# EAGLE library part HIROSE_DF40_70PIN (library GG_hirose70)
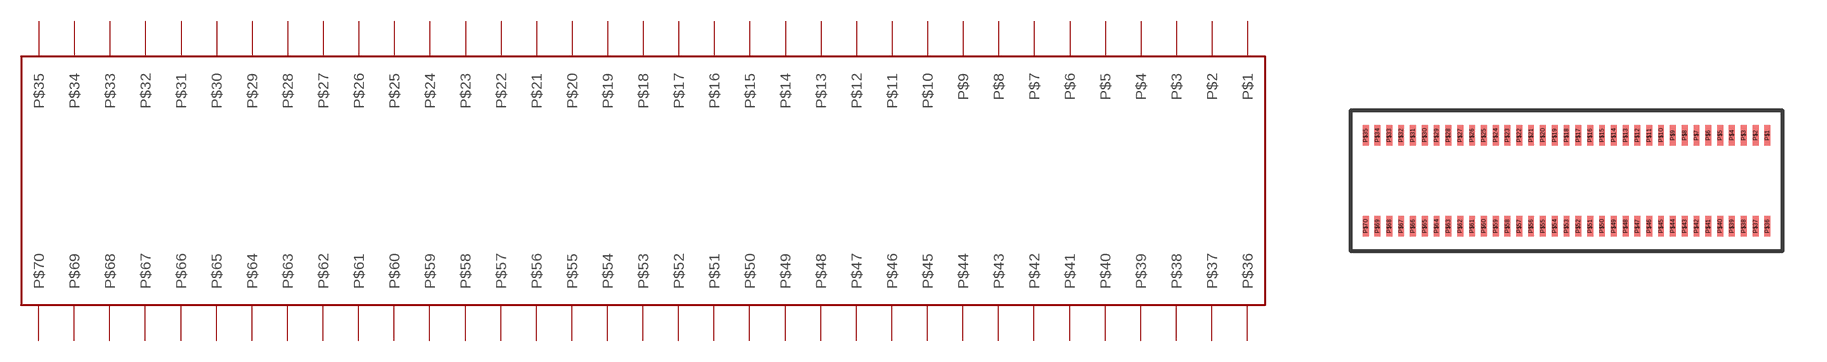
[diagram p0: symbol with the pads of HIROSE_DF40C-70DS; footprint HIROSE_DF40C-70DS]

Designator prefix -

## HIROSE_DF40_70PIN  [HIROSE_DF40C-70DS]
P$1  P$1
P$2  P$2
P$3  P$3
P$4  P$4
P$5  P$5
P$6  P$6
P$7  P$7
P$8  P$8
P$9  P$9
P$10  P$10
P$11  P$11
P$12  P$12
P$13  P$13
P$14  P$14
P$15  P$15
P$16  P$16
P$17  P$17
P$18  P$18
P$19  P$19
P$20  P$20
P$21  P$21
P$22  P$22
P$23  P$23
P$24  P$24
P$25  P$25
P$26  P$26
P$27  P$27
P$28  P$28
P$29  P$29
P$30  P$30
P$31  P$31
P$32  P$32
P$33  P$33
P$34  P$34
P$35  P$35
P$36  P$36
P$37  P$37
P$38  P$38
P$39  P$39
P$40  P$40
P$41  P$41
P$42  P$42
P$43  P$43
P$44  P$44
P$45  P$45
P$46  P$46
P$47  P$47
P$48  P$48
P$49  P$49
P$50  P$50
P$51  P$51
P$52  P$52
P$53  P$53
P$54  P$54
P$55  P$55
P$56  P$56
P$57  P$57
P$58  P$58
P$59  P$59
P$60  P$60
P$61  P$61
P$62  P$62
P$63  P$63
P$64  P$64
P$65  P$65
P$66  P$66
P$67  P$67
P$68  P$68
P$69  P$69
P$70  P$70

## Footprint HIROSE_DF40C-70DS (pad centres in mm)
Hirose pads for DF40 package
smd 0.2 x 0.7: P$1 0,0; P$2 -0.4,0; P$3 -0.8,0; P$4 -1.2,0; P$5 -1.6,0; P$6 -2,0; P$7 -2.4,0; P$8 -2.8,0; P$9 -3.2,0; P$10 -3.6,0; P$11 -4,0; P$12 -4.4,0; P$13 -4.8,0; P$14 -5.2,0; P$15 -5.6,0; P$16 -6,0; P$17 -6.4,0; P$18 -6.8,0; P$19 -7.2,0; P$20 -7.6,0; P$21 -8,0; P$22 -8.4,0; P$23 -8.8,0; P$24 -9.2,0; P$25 -9.6,0; P$26 -10,0; P$27 -10.4,0; P$28 -10.8,0; P$29 -11.2,0; P$30 -11.6,0; P$31 -12,0; P$32 -12.4,0; P$33 -12.8,0; P$34 -13.2,0; P$35 -13.6,0; P$36 0,-3.08; P$37 -0.4,-3.08; P$38 -0.8,-3.08; P$39 -1.2,-3.08; P$40 -1.6,-3.08; P$41 -2,-3.08; P$42 -2.4,-3.08; P$43 -2.8,-3.08; P$44 -3.2,-3.08; P$45 -3.6,-3.08; P$46 -4,-3.08; P$47 -4.4,-3.08; P$48 -4.8,-3.08; P$49 -5.2,-3.08; P$50 -5.6,-3.08; P$51 -6,-3.08; P$52 -6.4,-3.08; P$53 -6.8,-3.08; P$54 -7.2,-3.08; P$55 -7.6,-3.08; P$56 -8,-3.08; P$57 -8.4,-3.08; P$58 -8.8,-3.08; P$59 -9.2,-3.08; P$60 -9.6,-3.08; P$61 -10,-3.08; P$62 -10.4,-3.08; P$63 -10.8,-3.08; P$64 -11.2,-3.08; P$65 -11.6,-3.08; P$66 -12,-3.08; P$67 -12.4,-3.08; P$68 -12.8,-3.08; P$69 -13.2,-3.08; P$70 -13.6,-3.08